# Altium schematic symbol library Schlib1.SchLib: 62 symbols
Pins are listed as number, name and electrical type; pins without a type are passive.

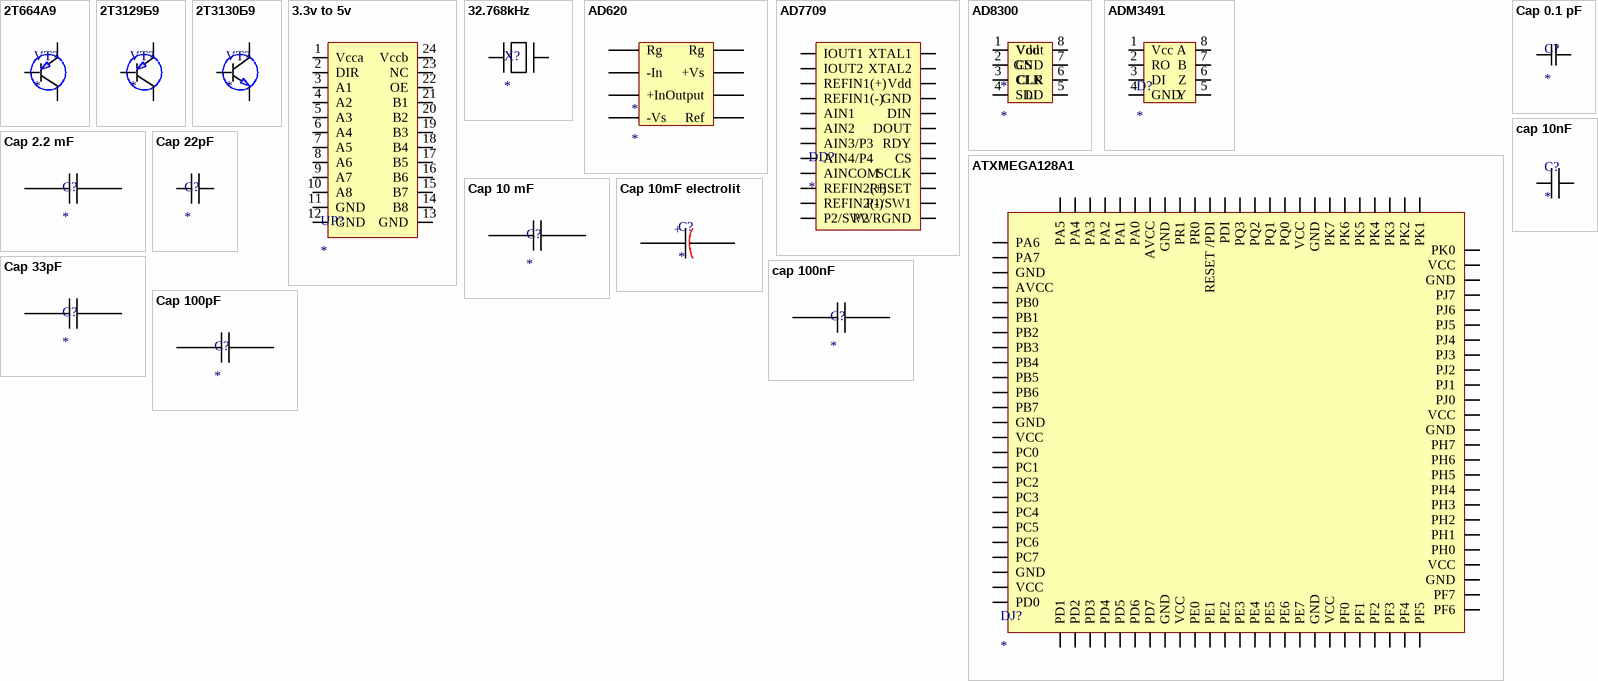
[diagram p0: symbols 2Т664А9 to Cap 100pF]

## 2Т664А9
designator VT?
footprint 2Т3129Б9
pins: 1, 2, 3

## 2Т3129Б9
designator VT?
footprint 2Т3129Б9
pins: 1, 2, 3

## 2Т3130Б9
designator VT?
footprint 2Т3129Б9
pins: 1, 2, 3

## 3.3v to 5v
designator UP?
pins: 1 Vcca, 2 DIR, 3 A1, 4 A2, 5 A3, 6 A4, 7 A5, 8 A6, 9 A7, 10 A8, 11 GND, 12 GND, 13 GND, 14 B8, 15 B7, 16 B6, 17 B5, 18 B4, 19 B3, 20 B2, 21 B1, 22 OE, 23 NC, 24 Vccb

## 32.768kHz
designator X?
footprint kvarz
pins: 1, 2

## AD620
designator *
footprint AD620
pins: 1 Rg, 2 -In, 3 +In, 4 -Vs, 5 Ref, 6 Output, 7 +Vs, 8 Rg

## AD7709
designator DD?
footprint AD7709 TSSOP24
pins: 1 IOUT1, 2 IOUT2, 3 REFIN1(+), 4 REFIN1(-), 5 AIN1, 6 AIN2, 7 AIN3/P3, 8 AIN4/P4, 9 AINCOM, 10 REFIN2(+), 11 REFIN2(-), 12 P2/SW2, 13 PWRGND, 14 P1/SW1, 15 RESET, 16 SCLK, 17 CS, 18 RDY, 19 DOUT, 20 DIN, 21 GND, 22 Vdd, 23 XTAL2, 24 XTAL1

## AD8300
designator *
footprint AD8300 SOIC 8
pins: 1 Vdd, 2 CS, 3 CLK, 4 SDI, 5 LD, 6 CLR, 7 GND, 8 Vout

## ADM3491
designator D?
footprint ADM3488 (SOIC, 8-Leads, Body 4,90x3,90mm, Pitch 1,27mm, IPC Medium Density)
pins: 1 Vcc, 2 RO, 3 DI, 4 GND, 5 Y, 6 Z, 7 B, 8 A

## ATXMEGA128A1
designator DJ?
footprint ATXMEGA128A1 (BGA, 100-Leads, Body 7,00x7,00mmx1,00mm, Pitch 0,65mm)
footprint ATXMEGA128A1 - duplicate (BGA, 100-Leads, Body 7,00x7,00mmx1,00mm, Pitch 0,65mm)
pins: A1 PK0, A2 VCC, A3 GND, A4 PJ3, A5 VCC, A6 GND, A7 PH1, A8 GND, A9 VCC, A10 PF7, B1 PK3, B2 PK2, B3 PK1, B4 PJ4, B5 PH7, B6 PH4, B7 PH2, B8 PH0, B9 PF6, B10 PF5, C1 VCC, C2 PK5, C3 PK4, C4 PJ5, C5 PJ0, C6 PH5, C7 PH3, C8 PF2, C9 PF3, C10 VCC, D1 GND, D2 PK6, D3 PK7, D4 PJ6, D5 PJ1, D6 PH6, D7 PF0, D8 PF1, D9 PF4, D10 GND, E1 PQ0, E2 PQ1, E3 PQ2, E4 PJ7, E5 PJ2, E6 PE7, E7 PE6, E8 PE5, E9 PE4, E10 PE3, F1 PR1, F2 PR0, F3 RESET /PDI, F4 PDI, F5 PQ3, F6 PC2, F7 PE2, F8 PE1, F9 PE0, F10 VCC, G1 GND, G2 PA1, G3 PA4, G4 PB3, G5 PB4, G6 PC1, G7 PC6, G8 PD7, G9 PD6, G10 GND, H1 AVCC, H2 PA2, H3 PA5, H4 PB2, H5 PB5, H6 PC0, H7 PC5, H8 PD5, H9 PD4, H10 PD3, J1 PA0, J2 PA3, J3 PB0, J4 PB1, J5 PB6, J6 PC3, J7 PC4, J8 PC7, J9 PD2, J10 PD1, K1 PA6, K2 PA7, K3 GND, K4 AVCC, K5 PB7, K6 VCC, K7 GND, K8 VCC, K9 GND, K10 PD0

## Cap 0.1 pF
designator C?
footprint Cap 0402
footprint Cap 0805
footprint Cap 0603
pins: 1, 2

## Cap 2.2 mF
designator C?
footprint Cap 0402
footprint Cap 0603
footprint Cap 0805
pins: 1, 2

## Cap 10 mF
designator C?
footprint Cap 0402
footprint Cap 0603
footprint Cap 0805
pins: 1, 2

## Cap 10mF electrolit
designator C?
footprint Cap 10mF electrolit
pins: 1, 2
text: +

## cap 10nF
designator C?
footprint cap 100nF (1.6*0.8) SMD
footprint Cap 0805
pins: 1, 2

## Cap 22pF
designator С?
footprint Cap 0805
pins: 1, 2

## Cap 33pF
designator C?
footprint Cap 0805
footprint Cap 1206
pins: 1, 2

## cap 100nF
designator C?
footprint Cap 0805
pins: 1, 2

## Cap 100pF
designator C?
footprint Cap 0805
pins: 1, 2

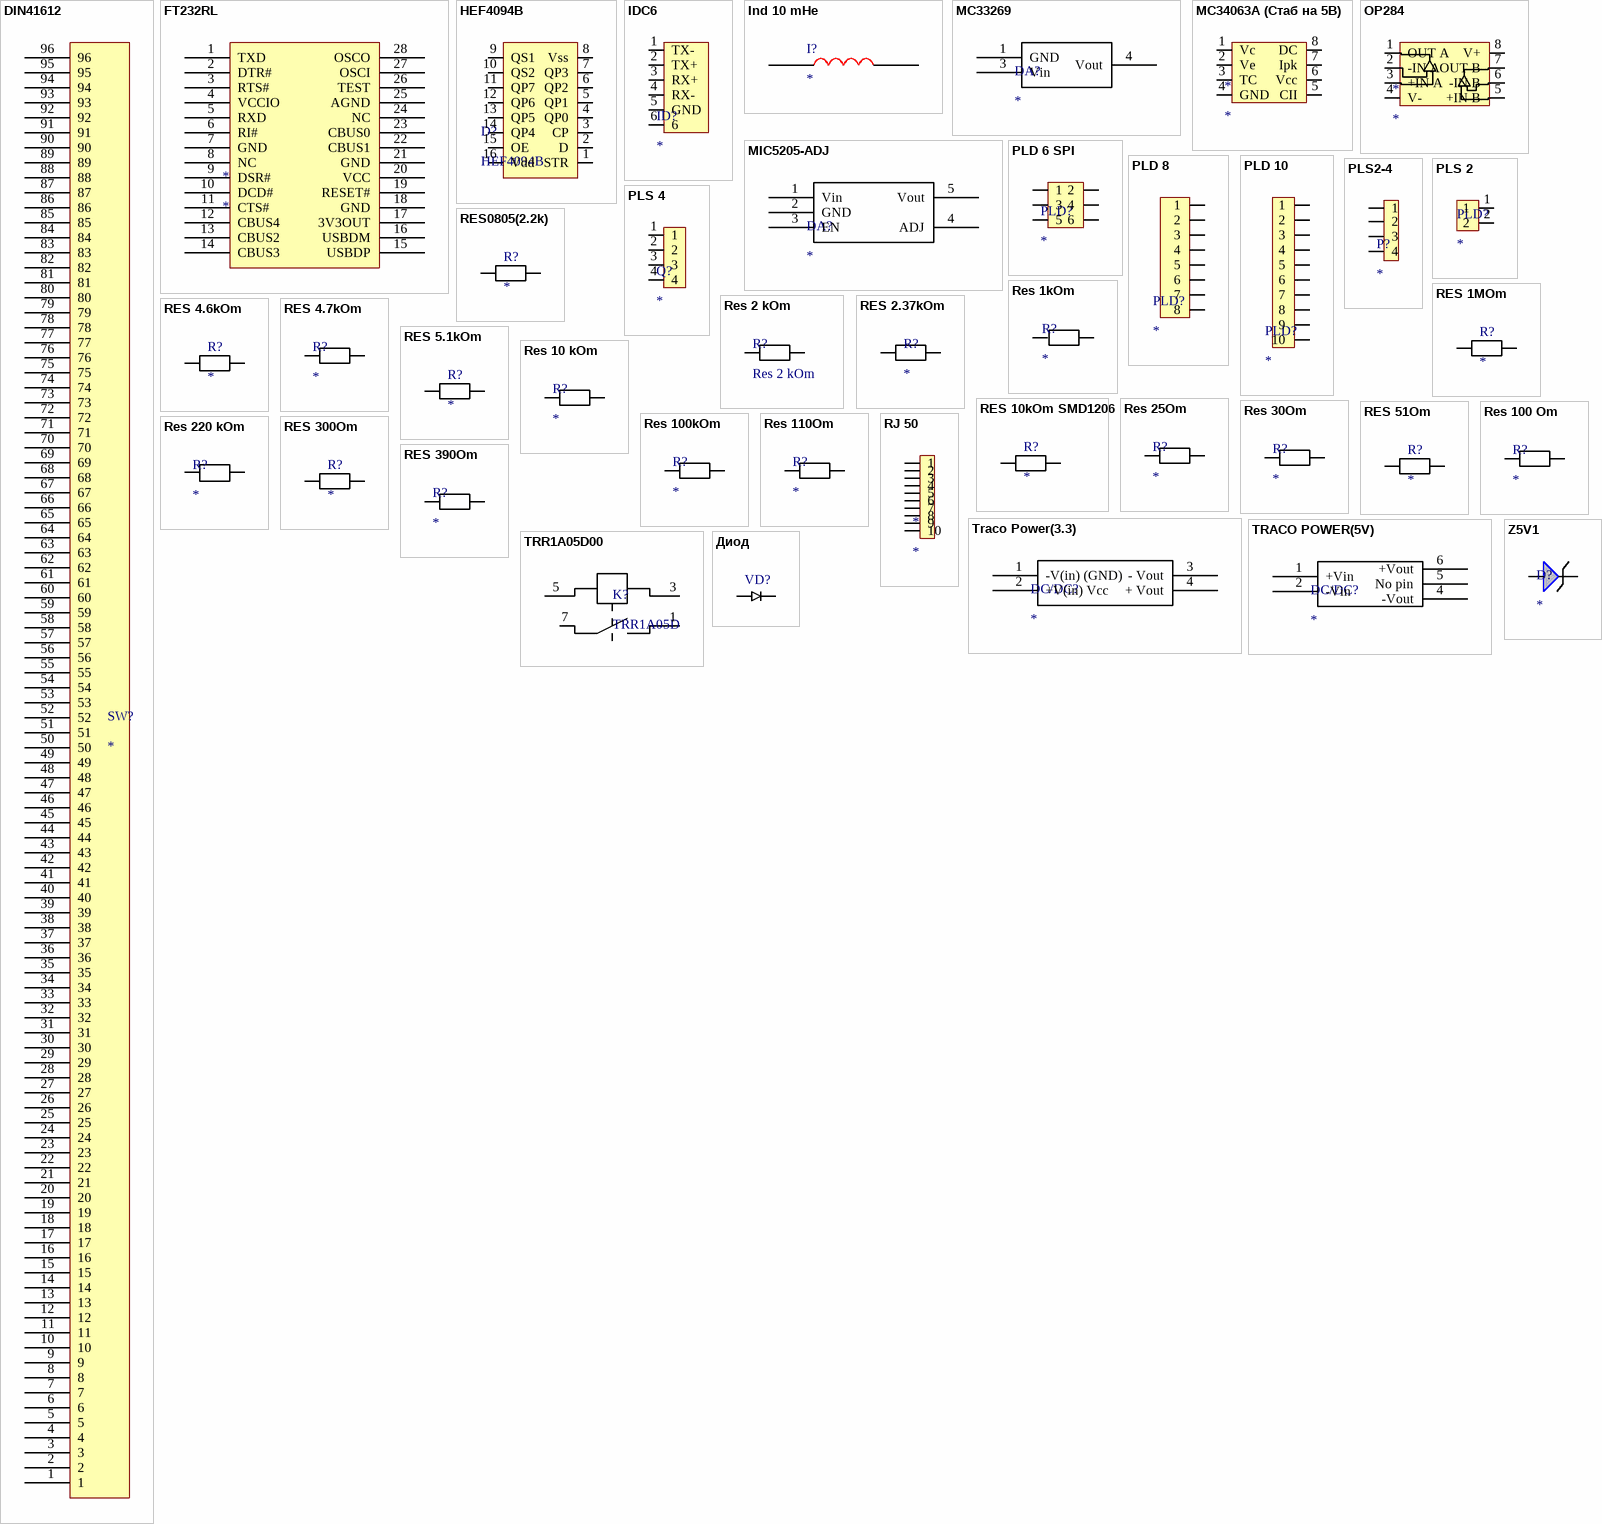
[diagram p1: symbols DIN41612 to Диод]

## DIN41612
designator SW?
footprint DIN41612_TRU
footprint DIN41612
pins: 1, 2, 3, 4, 5, 6, 7, 8, 9, 10, 11, 12, 13, 14, 15, 16, 17, 18, 19, 20, 21, 22, 23, 24, 25, 26, 27, 28, 29, 30, 31, 32, 33, 34, 35, 36, 37, 38, 39, 40, 41, 42, 43, 44, 45, 46, 47, 48, 49, 50, 51, 52, 53, 54, 55, 56, 57, 58, 59, 60, 61, 62, 63, 64, 65, 66, 67, 68, 69, 70, 71, 72, 73, 74, 75, 76, 77, 78, 79, 80, 81, 82, 83, 84, 85, 86, 87, 88, 89, 90, 91, 92, 93, 94, 95, 96

## FT232RL
designator *
footprint FT232RL (SOP, 28-Leads, Body 10,20x5,30mm, Pitch 0,65mm, IPC Medium Density)
pins: 1 TXD, 2 DTR#, 3 RTS#, 4 VCCIO, 5 RXD, 6 RI#, 7 GND, 8 NC, 9 DSR#, 10 DCD#, 11 CTS#, 12 CBUS4, 13 CBUS2, 14 CBUS3, 15 USBDP, 16 USBDM, 17 3V3OUT, 18 GND, 19 RESET#, 20 VCC, 21 GND, 22 CBUS1, 23 CBUS0, 24 NC, 25 AGND, 26 TEST, 27 OSCI, 28 OSCO

## HEF4094B
designator D?
Deshifrator
footprint SOP127P600X175-16N (SOP, 16-Leads, Body 9,90x3,90mm, Pitch 1,27mm, IPC Medium Density)
pins: 1 STR, 2 D, 3 CP, 4 QP0, 5 QP1, 6 QP2, 7 QP3, 8 Vss, 9 QS1, 10 QS2, 11 QP7, 12 QP6, 13 QP5, 14 QP4, 15 OE, 16 Vdd

## IDC6
designator ID?
footprint IDC 6
pins: 1 TX-, 2 TX+, 3 RX+, 4 RX-, 5 GND, 6

## Ind 10 mHe
designator I?
footprint Ind 10 mHe
pins: 1, 2

## MC33269
designator DA?
footprint MC33269 (D-PAK, 3-Pads, Body 6,27x6,73mm (max), IPC Medium Density)
pins: 1 GND, 3 Vin, 4 Vout

## MC34063A (Стаб на 5В)
designator *
footprint MC34063A (стасб на 5В)
pins: 1 Vc, 2 Ve, 3 TC, 4 GND, 5 CII, 6 Vcc, 7 Ipk, 8 DC

## MIC5205-ADJ
designator DA?
footprint MIC5205-ADJ (SOT23, 5-Leads, Body 2,91x2,80mm, Pitch 0,95mm, IPC Medium Density)
pins: 1 Vin, 2 GND, 3 EN, 4 ADJ, 5 Vout

## OP284
designator *
footprint DIP8
pins: 1 OUT A , 2 -IN A, 3 +IN A, 4 V-, 5 +IN B, 6 -IN B, 7 OUT B, 8 V+

## PLD 6 SPI
designator PLD?
footprint PLD 6 SPI
pins: 1, 2, 3, 4, 5, 6

## PLD 8
designator PLD?
footprint PLD 8
pins: 1, 2, 3, 4, 5, 6, 7, 8

## PLD 10
designator PLD?
footprint PLD 10
pins: 1, 2, 3, 4, 5, 6, 7, 8, 9, 10

## PLS2-4
designator P?
footprint PLS2-4
pins: 1, 2, 3, 4

## PLS 2
designator PLD?
footprint PLS 2
pins: 1, 2

## PLS 4
designator Q?
footprint PLS 4
pins: 1, 2, 3, 4

## RES0805(2.2k)
designator R?
footprint Res 0805
pins: 1, 2

## Res 1kOm
designator R?
footprint SMD0603
pins: 1, 2

## RES 1MOm
designator R?
footprint Res 1206
pins: 1, 2

## Res 2 kOm
designator R?
footprint SMD0805 ( L 2.1+-0.1)
pins: 1, 2

## RES 2.37kOm
designator R?
footprint Res 1206
pins: 1, 2

## RES 4.6kOm
designator R?
footprint Res 0805
pins: 1, 2

## RES 4.7kOm
designator R?
footprint Res 0805
pins: 1, 2

## RES 5.1kOm
designator R?
footprint Res 1206
pins: 1, 2

## Res 10 kOm
designator R?
footprint Res 0805
pins: 1, 2

## RES 10kOm SMD1206
designator R?
footprint Res 1206
pins: 1, 2

## Res 25Om
designator R?
footprint Res 0805
pins: 1, 2

## Res 30Om
designator R?
footprint SMD0603
pins: 1, 2

## RES 51Om
designator R?
footprint Res 1206
pins: 1, 2

## Res 100 Om
designator R?
footprint Res 0805
pins: 1, 2

## Res 100kOm
designator R?
footprint Res 0805
pins: 1, 2

## Res 110Om
designator R?
footprint Res 0805
pins: 1, 2

## Res 220 kOm
designator R?
footprint Res 0805
pins: 1, 2

## RES 300Om
designator R?
footprint Res 1206
pins: 1, 2

## RES 390Om
designator R?
footprint Res 1206
pins: 1, 2

## RJ 50
designator *
footprint RJ 50
pins: 1, 2, 3, 4, 5, 6, 7, 8, 9, 10

## Traco Power(3.3)
designator DC/DC?
footprint PCBComponent_1
pins: 1 -V(in) (GND), 2 +V(in) Vcc, 3 - Vout, 4 + Vout

## TRACO POWER(5V)
designator DC/DC?
footprint TRACO POWER
pins: 1 +Vin, 2 -Vin, 4 -Vout, 5 No pin, 6 +Vout

## TRR1A05D00
designator K?, comment TRR1A05D
footprint TTR-реле
pins: 1, 3, 5, 7

## Z5V1
designator D?
pins: 1, 2

## Диод
designator VD?, comment BAS216  (value not drawn)
footprint BAS216 (Diode)
pins: A Anod, K Katod

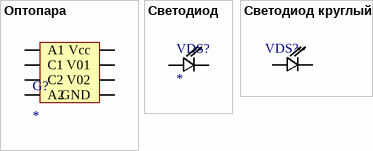
[diagram p2: symbols Оптопара to Светодиод круглый]

## Оптопара
designator G?
footprint HCPL-0600/01/11/30/31/61 (HCPL-0631-000E) (Small-Outline SO-8 Package (HCPL-0600/01/11/30/31/61))
pins: 1 A1, 2 C1, 3 C2, 4 A2, 5 GND, 6 V02, 7 V01, 8 Vcc

## Светодиод
designator VDS?
footprint SMD0603Diode
pins: 1, 2

## Светодиод круглый
designator VDS?  (value not drawn)
footprint Diode Shining
pins: 1, 2